# EAGLE library part TPD4EUSB30DQAR (library TPD4EUSB30DQAR)
Texas Instruments TPD4EUSB30DQAR, USB Controller, 6Gbit/s, USB 3.0, 10-Pin SON Source: Datasheet <http://www.ti.com/lit/gpn/tpd4eusb30>
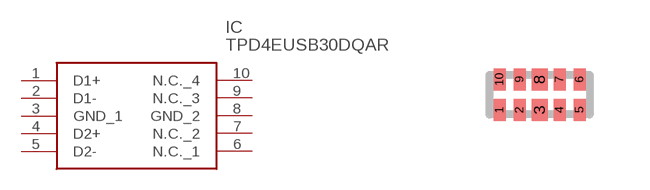
[diagram p0: symbol with the pads of DQA(R-PUSON-N10); footprint DQA(R-PUSON-N10)]

Designator prefix IC

## TPD4EUSB30DQAR (Arrow_Part_Number: TPD4EUSB30DQAR; Arrow_Price-Stock: https://www.arrow.com/en/products/tpd4eusb30dqar/texas-instruments?utm_currency=USD&region=nac; Description: Texas Instruments TPD4EUSB30DQAR, USB Controller, 6Gbit/s, USB 3.0, 10-Pin SON; Height: mm; Manufacturer_Name: Texas Instruments; Manufacturer_Part_Number: TPD4EUSB30DQAR; Mouser_Part_Number: 595-TPD4EUSB30DQAR; Mouser_Price-Stock: https://www.mouser.co.uk/ProductDetail/Texas-Instruments/TPD4EUSB30DQAR?qs=Ze4%2FuFuz19JpY4uqYOLMbQ%3D%3D)  [DQA(R-PUSON-N10)]
1  D1+
2  D1-
3  GND_1
4  D2+
5  D2-
6  N.C._1
7  N.C._2
8  GND_2
9  N.C._3
10  N.C._4

## Footprint DQA(R-PUSON-N10) (pad centres in mm)
DQA (R-PUSON-N10)
smd 0.3 x 0.55: 1 -1,-0.385; 2 -0.5,-0.385; 4 0.5,-0.385; 5 1,-0.385; 6 1,0.385; 7 0.5,0.385; 9 -0.5,0.385; 10 -1,0.385
smd 0.4 x 0.55: 3 0,-0.385; 8 0,0.385